# Altium footprint library AHT_xx.PcbLib: 2 footprints
Each footprint in its own frame and in the unit in brackets; x right, y up, seen from the top. Pads: shape width x height; smd on the part's side, far side on the other; paste and mask are expansions set on the pad; w line width, h text height; cw(c..) or ccw(c..) is an arc to the next point about the centre after c.
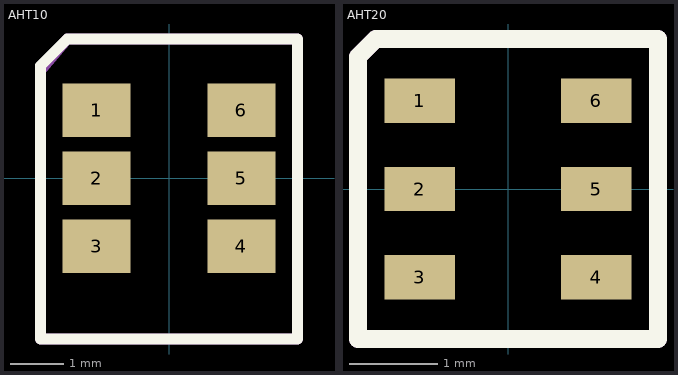
[diagram p0: the footprints below, top view; thin cyan lines are the x and y axes]

## AHT10 [mm]
pads (6):
  rect 1.27x1 smd: 1(-1.35,1.27) 2(-1.35,0) 3(-1.35,-1.27) 4(1.35,-1.27) 5(1.35,0) 6(1.35,1.27)
Top Overlay:
  lines w0.2: -2.4,-3 2.4,-3 2.4,2.6 -1.9,2.6 -2.4,2.1 -2.4,-3
Assy_top:
  lines w0.2: -2.4,-3 -2.4,2 -1.9,2.6 2.4,2.6 2.4,-3 -2.4,-3
  text ".Designator" at 0.6,-2.7 h1.52
3D body "User Library-AHT10.step": height 1.6, standoff -0.05, extent -2,-2.7 2,2.3

## AHT20 [mm]
pads (6):
  rect 0.8x0.5 smd: 1(-1,1) 2(-1,0) 3(-1,-1) 4(1,-1) 5(1,0) 6(1,1)
Top Overlay:
  lines w0.2: -1.7,-1.7 1.7,-1.7 1.7,1.7 -1.5,1.7 -1.7,1.5 -1.7,-1.7
Assy_top:
  lines w0.2: -1.7,-1.7 -1.7,1.5 -1.5,1.7 1.7,1.7 1.7,-1.7 -1.7,-1.7
  text ".Designator" at -1.4,-0.6 h1.52
3D body "AHT20.STEP": height 1.05, standoff -0.05, extent -1.5,-1.5 1.5,1.5